# EAGLE library part MAX5084ATT+T (library ruark2)
65V Linear Voltage Regulator IC Positive Adjustable (Fixed) 1 Output 200mA 6-TDFN-EP (3x3)
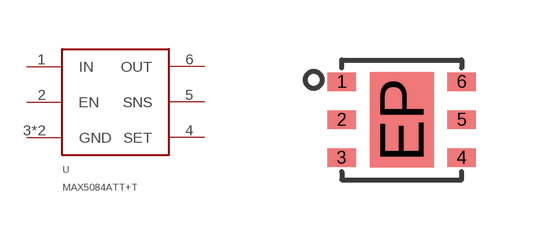
[diagram p146: symbol with the pads of 6DFN-EP; footprint 6DFN-EP]

Designator prefix U

## MAX5084ATT+T (PARTNO: MAX5084ATT+CT-ND)  [6DFN-EP]
1  IN  pas
2  EN  pas
3  GND  pas
4  SET  pas
5  SNS  pas
6  OUT  pas
EP  GND  pas

## Footprint 6DFN-EP (pad centres in mm)
smd 0.71 x 0.46: 1 -1.5,0.95; 2 -1.5,0; 3 -1.5,-0.95; 4 1.5,-0.95; 5 1.5,0; 6 1.5,0.95
smd 1.6 x 2.39: EP 0,0